# Altium footprint library Radial, Can - SMD.PcbLib: 1 footprints
Each footprint in its own frame and in the unit in brackets; x right, y up, seen from the top. Pads: shape width x height; smd on the part's side, far side on the other; paste and mask are expansions set on the pad; w line width, h text height; cw(c..) or ccw(c..) is an arc to the next point about the centre after c.
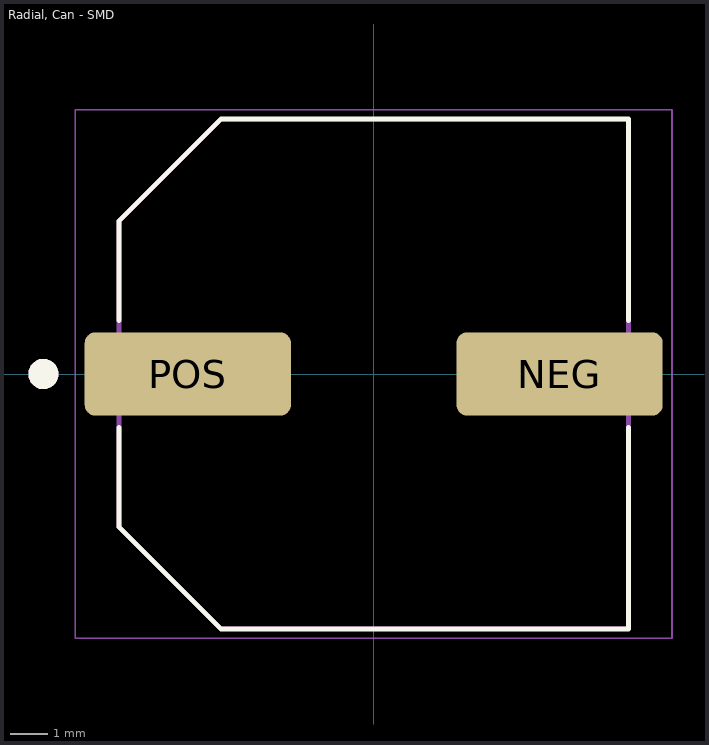
[diagram p0: the footprint, top view; thin cyan lines are the x and y axes]

## Radial, Can - SMD [mm]
pads (2):
  rrect25% 5.46x2.21 smd: NEG(4.925,0) POS(-4.925,0)
Top Overlay:
  circle w0.4: c-8.75,0 r0.2
  lines w0.127: -6.75,-1.42 -6.75,-4.05 -4.05,-6.752 6.75,-6.752 6.75,-1.42 ; -6.75,1.42 -6.75,4.05 -4.05,6.752 6.75,6.752 6.75,1.42
Mechanical 13:
  circle w0.4: c-8.75,0 r0.2
  lines w0.127: -6.75,-4.05 -4.05,-6.75 6.75,-6.75 6.75,6.75 -4.05,6.75 -6.75,4.05 -6.75,-4.05
Mechanical 15:
  lines w0.05: -7.905,-7 -7.905,7 7.905,7 7.905,-7 -7.905,-7